# EAGLE library part ESP8266-12-ADAPTER-BRD (library Nextion handheld controller)
ESP8266-12E/F adapter board
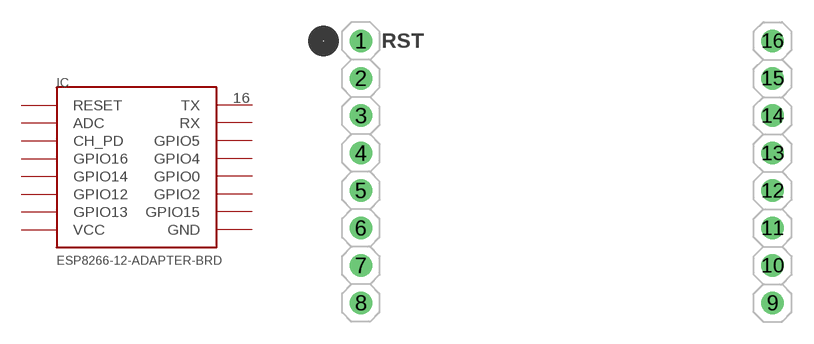
[diagram p14: symbol with the pads of ESP8266-12-ADAPTER-BRD; footprint ESP8266-12-ADAPTER-BRD]

Designator prefix IC

## ESP8266-12-ADAPTER-BRD  [ESP8266-12-ADAPTER-BRD]
1  RESET
2  ADC
3  CH_PD
4  GPIO16
5  GPIO14
6  GPIO12
7  GPIO13
8  VCC
9  GND
10  GPIO15
11  GPIO2
12  GPIO0
13  GPIO4
14  GPIO5
15  RX
16  TX

## Footprint ESP8266-12-ADAPTER-BRD (pad centres in mm)
ESP8266-12 adapter pcb
drill 1.016: 1 -13.97,7.62; 2 -13.97,5.08; 3 -13.97,2.54; 4 -13.97,0; 5 -13.97,-2.54; 6 -13.97,-5.08; 7 -13.97,-7.62; 8 -13.97,-10.16; 9 13.97,-10.16; 10 13.97,-7.62; 11 13.97,-5.08; 12 13.97,-2.54; 13 13.97,0; 14 13.97,2.54; 15 13.97,5.08; 16 13.97,7.62